# Altium footprint library DB15.PcbLib: 1 footprints
Each footprint in its own frame and in the unit in brackets; x right, y up, seen from the top. Pads: shape width x height; smd on the part's side, far side on the other; paste and mask are expansions set on the pad; w line width, h text height; cw(c..) or ccw(c..) is an arc to the next point about the centre after c.
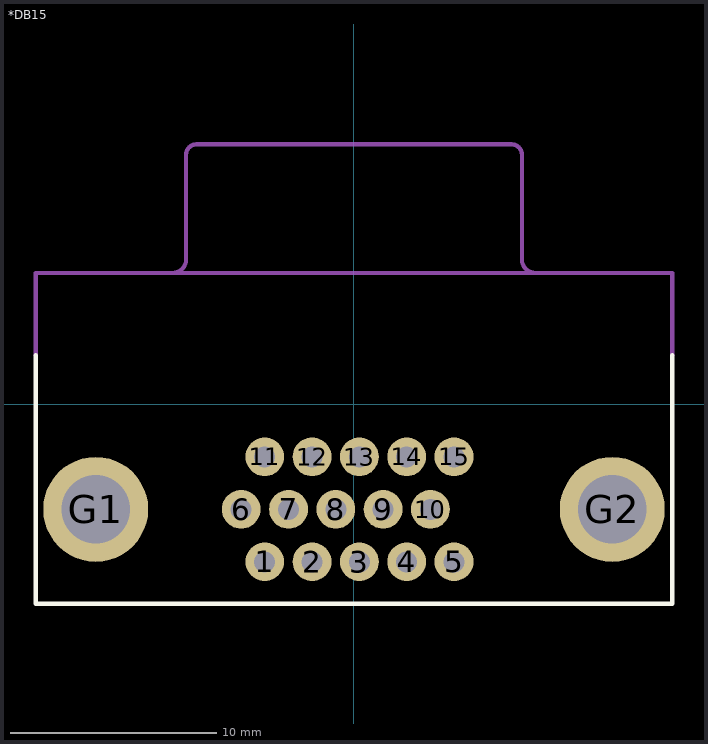
[diagram p0: the footprint, top view; thin cyan lines are the x and y axes]

## *DB15 [mil]
pads (17):
  round 74 hole 40: 1(-170.08,-300) 2(-79.92,-300) 3(10.24,-300) 4(100.39,-300) 5(190.55,-300) 6(-214.96,-200) 7(-124.8,-200) 8(-34.65,-200) 9(55.51,-200) 10(145.67,-200) 11(-170.08,-100) 12(-79.92,-100) 13(10.24,-100) 14(100.39,-100) 15(190.55,-100)
  round 200 hole 130: G1(-492.13,-200) G2(492.13,-200)
Top Overlay:
  lines w8: -606.3,93.7 -606.3,-379.92 606.3,-379.92 606.3,93.7
Mechanical 4:
  lines w8: -606.3,250 606.3,250 ; -606.3,250 -606.3,93.7 -606.3,250 ; -606.3,250 606.3,250 ; -320,275.55 cw(c-345,275.55) -345,250.55 ccw(c-345,275.55) -320,275.55 ; -320,275.55 -320,475.55 ; -320,275.55 -320,475.55 ; -320,475.55 cw(c-300,475.55) -300,495.55 ; -320,475.55 cw(c-300,475.55) -300,495.55 ; -300,495.55 300,495.55 ; -300,495.55 300,495.55 ; 300,495.55 cw(c300,475.55) 320,475.55 ; 300,495.55 cw(c300,475.55) 320,475.55 ; 320,275.55 ccw(c345,275.55) 345,250.55 cw(c345,275.55) 320,275.55 ; 320,275.55 320,475.55 ; 320,275.55 320,475.55 ; 606.3,250 606.3,93.7 606.3,250